# Altium footprint library VDRI30B24_N_IRM-15-24.PcbLib: 1 footprints
Each footprint in its own frame and in the unit in brackets; x right, y up, seen from the top. Pads: shape width x height; smd on the part's side, far side on the other; paste and mask are expansions set on the pad; w line width, h text height; cw(c..) or ccw(c..) is an arc to the next point about the centre after c.
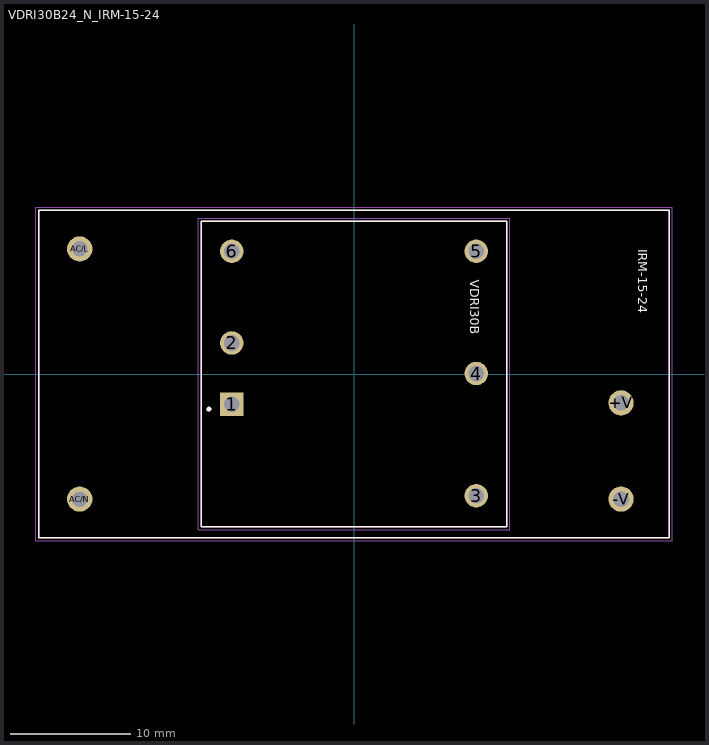
[diagram p0: the footprint, top view; thin cyan lines are the x and y axes]

## VDRI30B24_N_IRM-15-24 [mm]
height 24
pads (10):
  rect 1.95x1.95 hole 1.3: 1(-10.16,-2.5)
  round 1.95 hole 1.3: 2(-10.16,2.58) 3(10.16,-10.12) 4(10.16,0.04) 5(10.16,10.2) 6(-10.16,10.2)
  round 2.1 hole 1.3: +V(22.2,-2.4) -V(22.2,-10.4) AC/L(-22.8,10.4) AC/N(-22.8,-10.4)
Top Overlay:
  circle w0.2: c-12.065,-2.921 r0.1
  lines w0.127: -26.2,-13.6 26.2,-13.6 26.2,13.6 -26.2,13.6 -26.2,-13.6 ; -12.7,-12.7 -12.7,12.7 12.7,12.7 12.7,-12.7 -12.7,-12.7
  text "IRM-15-24" at 23.647,10.389 h0.76
  text "VDRI30B" at 9.677,7.849 h0.76
Mechanical 13:
  circle w0.2: c-12.065,-2.921 r0.1
  lines w0.127: -12.7,-12.7 -12.7,12.7 12.7,12.7 12.7,-12.7 -12.7,-12.7
Mechanical 15:
  lines w0.05: -26.45,-13.85 -26.45,13.85 26.45,13.85 26.45,-13.85 -26.45,-13.85 ; -12.95,-12.95 -12.95,12.95 12.95,12.95 12.95,-12.95 -12.95,-12.95
Mechanical 16:
  lines w0.127: -26.2,-13.6 26.2,-13.6 26.2,13.6 -26.2,13.6 -26.2,-13.6
3D body "IRM-15-5--3DModel.STEP": height 24, standoff -3.6, extent -26.162,-13.611 26.238,13.589
3D body "step_temp.STEP": height 9.9, standoff -5.6, extent -12.7,-12.7 12.7,12.7